# EAGLE library part LP5018 (library lp50xx)
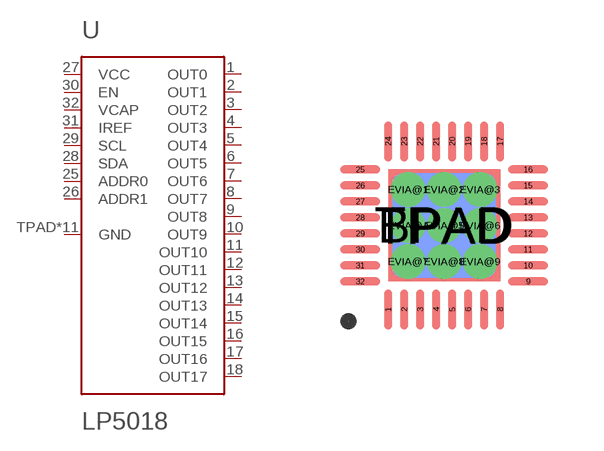
[diagram p0: symbol with the pads of S-PVQFN-N32; footprint S-PVQFN-N32]

Designator prefix U

## LP5018  [S-PVQFN-N32]
1  OUT0
2  OUT1
3  OUT2
4  OUT3
5  OUT4
6  OUT5
7  OUT6
8  OUT7
9  OUT8
10  OUT9
11  OUT10
12  OUT11
13  OUT12
14  OUT13
15  OUT14
16  OUT15
17  OUT16
18  OUT17
25  ADDR0
26  ADDR1
27  VCC
28  SDA
29  SCL
30  EN
31  IREF
32  VCAP
BPAD  GND
EVIA@1  GND
EVIA@2  GND
EVIA@3  GND
EVIA@4  GND
EVIA@5  GND
EVIA@6  GND
EVIA@7  GND
EVIA@8  GND
EVIA@9  GND
TPAD  GND

## Footprint S-PVQFN-N32 (pad centres in mm)
smd 0.195 x 0.99: 1 -1.4,-2.1; 2 -1,-2.1; 3 -0.6,-2.1; 4 -0.2,-2.1; 5 0.2,-2.1; 6 0.6,-2.1; 7 1,-2.1; 8 1.4,-2.1; 17 1.4,2.1; 18 1,2.1; 19 0.6,2.1; 20 0.2,2.1; 21 -0.2,2.1; 22 -0.6,2.1; 23 -1,2.1; 24 -1.4,2.1
smd 0.99 x 0.195: 9 2.1,-1.4; 10 2.1,-1; 11 2.1,-0.6; 12 2.1,-0.2; 13 2.1,0.2; 14 2.1,0.6; 15 2.1,1; 16 2.1,1.4; 25 -2.1,1.4; 26 -2.1,1; 27 -2.1,0.6; 28 -2.1,0.2; 29 -2.1,-0.2; 30 -2.1,-0.6; 31 -2.1,-1; 32 -2.1,-1.4
smd 2.6 x 2.6 bottom: BPAD 0,0
drill 0.35 pad 0.6: EVIA@1 -0.9,0.9; EVIA@2 0,0.9; EVIA@3 0.9,0.9; EVIA@4 -0.9,0; EVIA@5 0,0; EVIA@6 0.9,0; EVIA@7 -0.9,-0.9; EVIA@8 0,-0.9; EVIA@9 0.9,-0.9
smd 2.8 x 2.8: TPAD 0,0